# EAGLE library part 5V_REG_LM78L05 (library powercube)
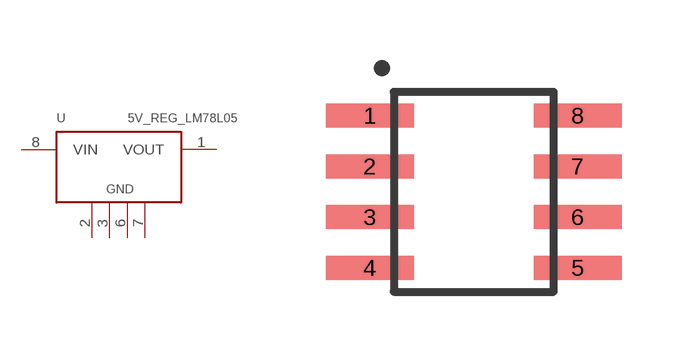
[diagram p1: symbol with the pads of SOIC_8; footprint SOIC_8]

Designator prefix -

## 5V_REG_LM78L05  [SOIC_8]
1  VOUT
2  2
3  3
6  6
7  7
8  VIN

## Footprint SOIC_8 (pad centres in mm)
smd 2.2 x 0.6: 1 -2.6,1.905; 2 -2.6,0.635; 3 -2.6,-0.635; 4 -2.6,-1.905; 5 2.6,-1.905; 6 2.6,-0.635; 7 2.6,0.635; 8 2.6,1.905